# Altium footprint library Dronepcb.PcbLib: 33 footprints (part 3 of 3)
Each footprint in its own frame and in the unit in brackets; x right, y up, seen from the top. Pads: shape width x height; smd on the part's side, far side on the other; paste and mask are expansions set on the pad; w line width, h text height; cw(c..) or ccw(c..) is an arc to the next point about the centre after c.
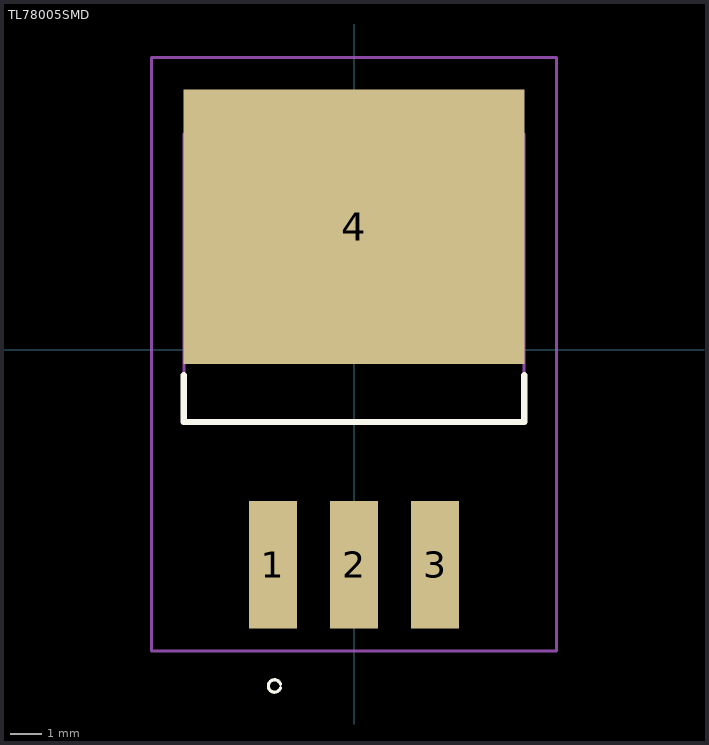
[diagram p2: the footprint, top view; thin cyan lines are the x and y axes]

## TL78005SMD [mm]
pads (4):
  rect 1.5x4 smd: 1(-2.54,-6.745) 2(0,-6.745) 3(2.54,-6.745)
  rect 10.7x8.6 smd: 4(0,3.855)
Top Overlay:
  lines w0.1: -2.302,-10.591 cw(c-2.489,-10.541) -2.302,-10.491
  lines w0.2: -5.33,-0.8 -5.33,-2.27 5.33,-2.27 5.33,-0.8
Mechanical 13:
  lines w0.1: -5.33,-2.27 -5.33,6.745 5.33,6.745 5.33,-2.27 -5.33,-2.27
Mechanical 15:
  lines w0.1: -6.35,-9.445 -6.35,9.155 6.35,9.155 6.35,-9.445 -6.35,-9.445